# EAGLE library part 74VHC541MTC (library Fairchild_By_element14_Batch_1)
Octal Buffer/Line Driver with 3-STATE Outputs
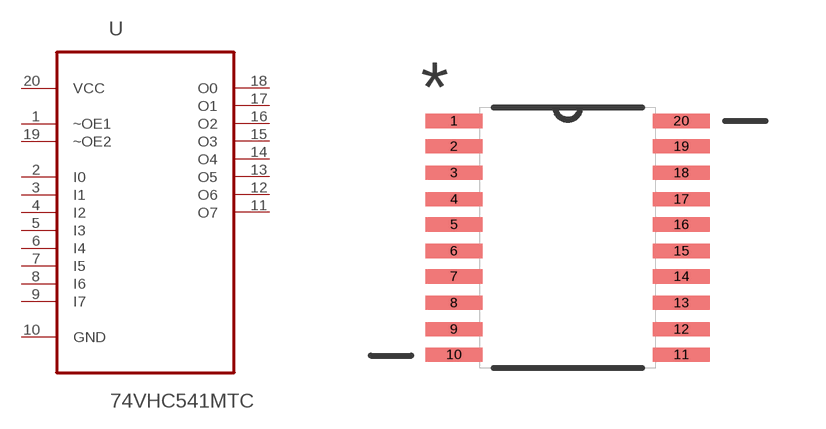
[diagram p141: symbol with the pads of SOP65P640X120-20N; footprint SOP65P640X120-20N]

Designator prefix U

## 74VHC541MTC (MPN: 74VHC541MTC; OC_FARNELL: 1434838; OC_NEWARK: 85K9078; PACKAGE: TSSOP-20; SUPPLIER: FAIRCHILD)  [SOP65P640X120-20N]
1  ~OE1  in
2  I0  in
3  I1  in
4  I2  in
5  I3  in
6  I4  in
7  I5  in
8  I6  in
9  I7  in
10  GND  pas
11  O7  out
12  O6  out
13  O5  out
14  O4  out
15  O3  out
16  O2  out
17  O1  out
18  O0  out
19  ~OE2  in
20  VCC  pwr

## Footprint SOP65P640X120-20N (pad centres in mm)
smd 1.422 x 0.356: 1 -2.845,2.921; 2 -2.845,2.286; 3 -2.845,1.626; 4 -2.845,0.965; 5 -2.845,0.33; 6 -2.845,-0.33; 7 -2.845,-0.965; 8 -2.845,-1.626; 9 -2.845,-2.286; 10 -2.845,-2.921; 11 2.845,-2.921; 12 2.845,-2.286; 13 2.845,-1.626; 14 2.845,-0.965; 15 2.845,-0.33; 16 2.845,0.33; 17 2.845,0.965; 18 2.845,1.626; 19 2.845,2.286; 20 2.845,2.921